# EAGLE library part AMPHENOL_10118192-0001LF (library USB-Micro-B-2.0)
USB-B-MICRO TYPE 2.0
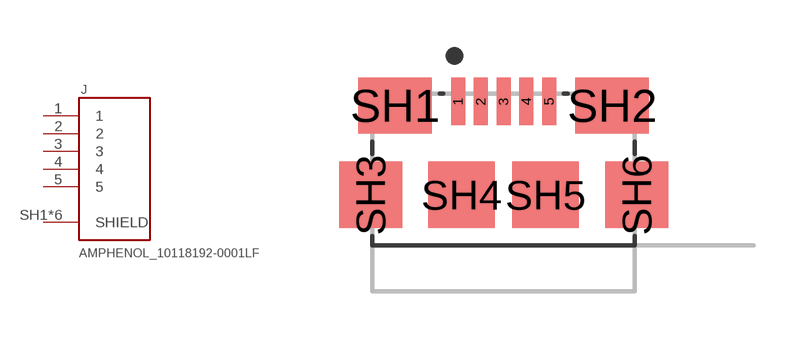
[diagram p3: symbol with the pads of AMPHENOL_10118192-0001LF; footprint AMPHENOL_10118192-0001LF]

Designator prefix J

## AMPHENOL_10118192-0001LF  [AMPHENOL_10118192-0001LF]
1  1  pas
2  2  pas
3  3  pas
4  4  pas
5  5  pas
SH1  SHIELD  pas
SH2  SHIELD  pas
SH3  SHIELD  pas
SH4  SHIELD  pas
SH5  SHIELD  pas
SH6  SHIELD  pas

## Footprint AMPHENOL_10118192-0001LF (pad centres in mm)
USB-B-MICRO
smd 0.4 x 1.35: 1 -1.3,1.27; 2 -0.65,1.27; 3 0,1.27; 4 0.65,1.27; 5 1.3,1.27
smd 2.1 x 1.6: SH1 -3.1,1.145; SH2 3.1,1.145
smd 1.8 x 1.9: SH3 -3.8,-1.405; SH6 3.8,-1.405
smd 1.9 x 1.9: SH4 -1.2,-1.405; SH5 1.2,-1.405